# Altium schematic symbol library Schlib1.SchLib: 1 symbol
Pins are listed as number, name and electrical type; pins without a type are passive.

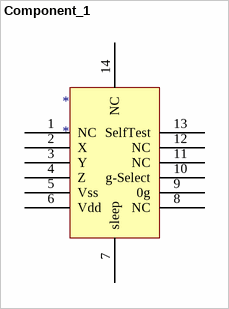
[diagram p0: symbol Component_1]

## Component_1
designator *
pins: 1 NC, 2 X, 3 Y, 4 Z, 5 Vss, 6 Vdd, 7 sleep, 8 NC, 9 0g, 10 g-Select, 11 NC, 12 NC, 13 SelfTest, 14 NC
2 alternate drawings of the same symbol